# Altium footprint library PcbLib1.PcbLib: 3 footprints
Each footprint in its own frame and in the unit in brackets; x right, y up, seen from the top. Pads: shape width x height; smd on the part's side, far side on the other; paste and mask are expansions set on the pad; w line width, h text height; cw(c..) or ccw(c..) is an arc to the next point about the centre after c.
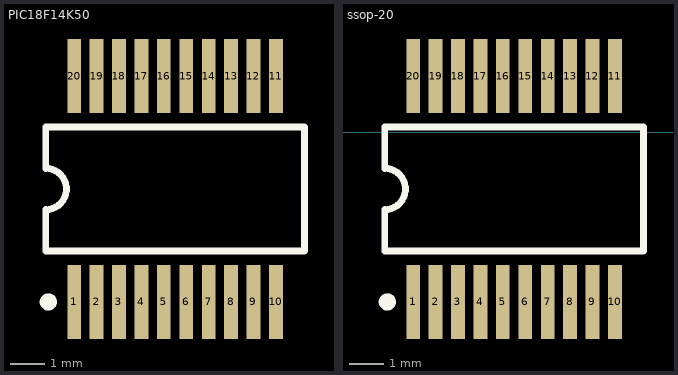
[diagram p0: the footprints below, top view; thin cyan lines are the x and y axes]

## PCBComponent_1 [mm]

## PIC18F14K50 [mm] "PIC18F14K50"
pads (20):
  rect 0.4x2.15 smd: 1(15.871,3.202) 2(16.521,3.202) 3(17.171,3.202) 4(17.821,3.202) 5(18.471,3.202) 6(19.121,3.202) 7(19.771,3.202) 8(20.421,3.202) 9(21.071,3.202) 10(21.721,3.202) 11(21.721,9.752) 12(21.071,9.752) 13(20.421,9.752) 14(19.771,9.752) 15(19.121,9.752) 16(18.471,9.752) 17(17.821,9.752) 18(17.171,9.752) 19(16.521,9.752) 20(15.871,9.752)
Top Overlay:
  circle w0.25: c15.121,3.202 r0.125
  lines w0.2: 15.046,4.677 22.546,4.677 22.546,8.277 15.046,8.277 15.046,7.077 cw(c15.046,6.477) 15.046,5.877 15.046,4.677

## ssop-20 [mm] "ssop-20"
pads (20):
  rect 0.4x2.15 smd: 1(93.976,-4.926) 2(94.626,-4.926) 3(95.276,-4.926) 4(95.926,-4.926) 5(96.576,-4.926) 6(97.226,-4.926) 7(97.876,-4.926) 8(98.526,-4.926) 9(99.176,-4.926) 10(99.826,-4.926) 11(99.826,1.624) 12(99.176,1.624) 13(98.526,1.624) 14(97.876,1.624) 15(97.226,1.624) 16(96.576,1.624) 17(95.926,1.624) 18(95.276,1.624) 19(94.626,1.624) 20(93.976,1.624)
Top Overlay:
  circle w0.25: c93.226,-4.926 r0.125
  lines w0.2: 93.151,-3.451 93.151,-2.251 ccw(c93.151,-1.651) 93.151,-1.051 93.151,0.149 100.651,0.149 100.651,-3.451 93.151,-3.451